# Altium schematic symbol library SCH - MEMORY - INFINEON S25FL256SAGMFV000 SOIC 16.Schlib: 1 symbol
Pins are listed as number, name and electrical type; pins without a type are passive.

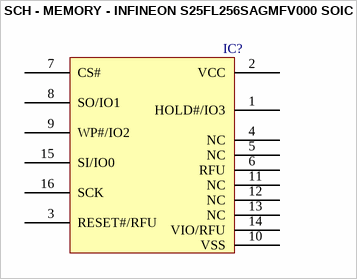
[diagram p0: symbol SCH - MEMORY - INFINEON S25FL256SAGMFV000 SOIC 16]

## SCH - MEMORY - INFINEON S25FL256SAGMFV000 SOIC 16
designator IC?
footprint SOIC16
pins: 1 HOLD#/IO3, 2 VCC, 3 RESET#/RFU, 4 NC, 5 NC, 6 RFU, 7 CS#, 8 SO/IO1, 9 WP#/IO2, 10 VSS, 11 NC, 12 NC, 13 NC, 14 VIO/RFU, 15 SI/IO0, 16 SCK